# EAGLE library part PROTOBOARD-32 (library CougsInSpace)
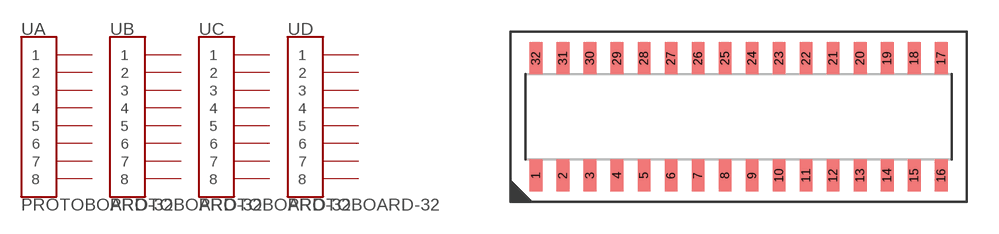
[diagram p40: symbol with the pads of PROTOBOARD-SOIC; footprint PROTOBOARD-SOIC]

Designator prefix U; gates A=CONN_08 B=CONN_08 C=CONN_08 D=CONN_08

## PROTOBOARD-32SOIC  [PROTOBOARD-SOIC]
1  A:1
2  A:2
3  A:3
4  A:4
5  A:5
6  A:6
7  A:7
8  A:8
9  B:1
10  B:2
11  B:3
12  B:4
13  B:5
14  B:6
15  B:7
16  B:8
17  C:1
18  C:2
19  C:3
20  C:4
21  C:5
22  C:6
23  C:7
24  C:8
25  D:1
26  D:2
27  D:3
28  D:4
29  D:5
30  D:6
31  D:7
32  D:8

## Footprint PROTOBOARD-SOIC (pad centres in mm)
smd 0.6 x 1.52: 1 -3.81,-2.76; 2 -2.54,-2.76; 3 -1.27,-2.76; 4 0,-2.76; 5 1.27,-2.76; 6 2.54,-2.76; 7 3.81,-2.76; 8 5.08,-2.76; 9 6.35,-2.76; 10 7.62,-2.76; 11 8.89,-2.76; 12 10.16,-2.76; 13 11.43,-2.76; 14 12.7,-2.76; 15 13.97,-2.76; 16 15.24,-2.76; 17 15.24,2.76; 18 13.97,2.76; 19 12.7,2.76; 20 11.43,2.76; 21 10.16,2.76; 22 8.89,2.76; 23 7.62,2.76; 24 6.35,2.76; 25 5.08,2.76; 26 3.81,2.76; 27 2.54,2.76; 28 1.27,2.76; 29 0,2.76; 30 -1.27,2.76; 31 -2.54,2.76; 32 -3.81,2.76